# EAGLE library part MTA08-100 (library con-amp)
AMP CONNECTOR
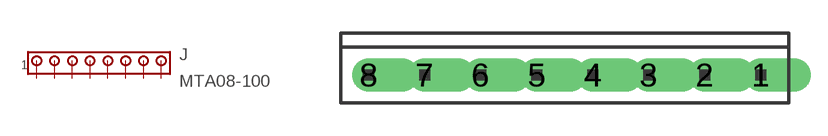
[diagram p124: symbol with the pads of 10X08MTA; footprint 10X08MTA]

Designator prefix J

## MTA08-100  [10X08MTA]
1  1  pas
2  2  pas
3  3  pas
4  4  pas
5  5  pas
6  6  pas
7  7  pas
8  8  pas

## Footprint 10X08MTA (pad centres in mm)
AMP CONNECTOR
drill 1.016 offset: 1 8.89,0; 2 6.35,0; 3 3.81,0; 4 1.27,0; 5 -1.27,0; 6 -3.81,0; 7 -6.35,0; 8 -8.89,0